# EAGLE library part LM2903D (library debauer_ics)
DUAL DIFFERENTIAL COMPARATORS
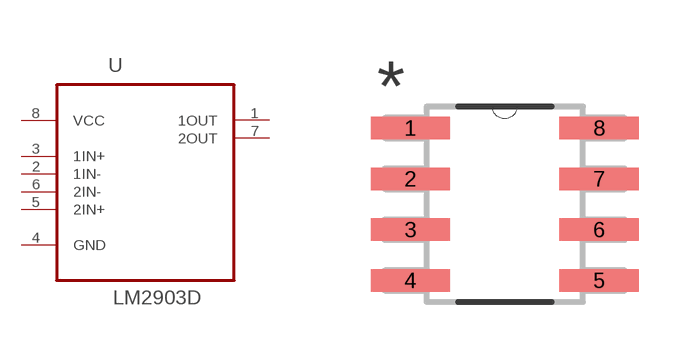
[diagram p8: symbol with the pads of SOIC127P600X175-8N; footprint SOIC127P600X175-8N]

Designator prefix U

## LM2903D (MOUNT: smd; MPN: LM2903D; OC_FARNELL: 1564964; OC_NEWARK: 72K8846; PACKAGE: SOIC-8; SUPPLIER: Texas Instruments)  [SOIC127P600X175-8N]
1  1OUT  out
2  1IN-  in
3  1IN+  in
4  GND  pas
5  2IN+  in
6  2IN-  in
7  2OUT  out
8  VCC  pwr

## Footprint SOIC127P600X175-8N (pad centres in mm)
smd 1.981 x 0.559: 1 -2.362,1.905; 2 -2.362,0.635; 3 -2.362,-0.635; 4 -2.362,-1.905; 5 2.362,-1.905; 6 2.362,-0.635; 7 2.362,0.635; 8 2.362,1.905